# Altium footprint library 43045_0401.PcbLib: 1 footprints
Each footprint in its own frame and in the unit in brackets; x right, y up, seen from the top. Pads: shape width x height; smd on the part's side, far side on the other; paste and mask are expansions set on the pad; w line width, h text height; cw(c..) or ccw(c..) is an arc to the next point about the centre after c.
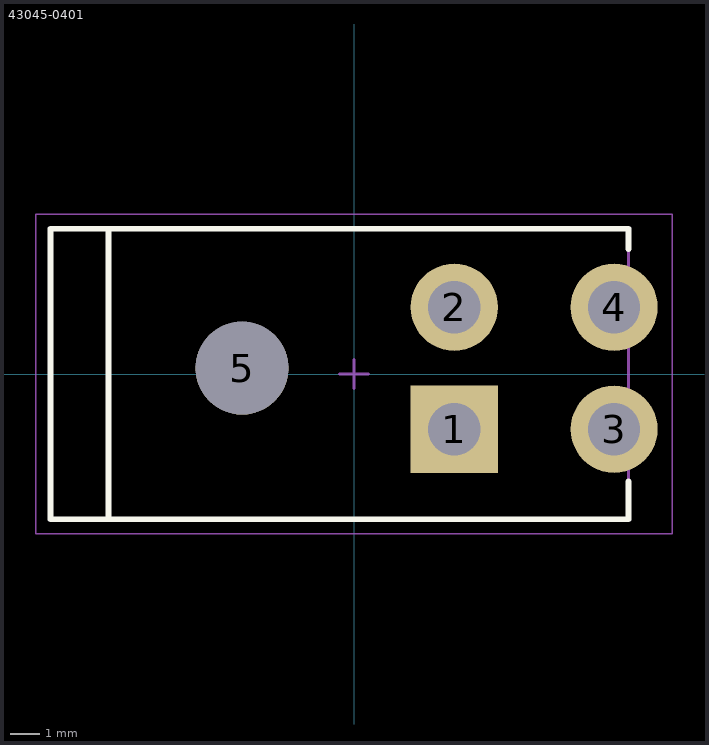
[diagram p0: the footprint, top view; thin cyan lines are the x and y axes]

## 43045-0401 [mm]
height 8.8
pads (5):
  rect 3x3 hole 1.8 mask+0: 1(3.45,-1.9)
  round 3 hole 1.8 mask+0: 2(3.45,2.3) 3(8.95,-1.9) 4(8.95,2.3)
  round 3.2 hole 3.2 unplated mask+0: 5(-3.85,0.2)
Top Overlay:
  lines w0.2: -8.45,-5 -8.45,5 ; 9.45,-3.7 9.45,-5 -8.322,-5 -10.45,-5 -10.45,5 -8.322,5 9.45,5 9.45,4.3
Top Comment:
  text ".Comment" at 1.3,5.6 h1.2
Top Designator:
  text ".Designator" at -0.6,5.6 h1.2
Top Component Outline:
  lines w0.1: -10.45,-5 9.45,-5 9.45,5 -10.45,5 -10.45,-5
Top Courtyard (Mech15):
  lines w0.05: -10.95,-5.5 10.95,-5.5 10.95,5.5 -10.95,5.5 -10.95,-5.5
  lines w0.1: -0.5,0 0.5,0 ; 0,-0.5 0,0.5
3D body "026013115.stp": height 11.4, standoff -3.6, extent -10.418,-5 9.517,5